# Altium footprint library TP5532-FR_DFN8.PcbLib: 2 footprints
Each footprint in its own frame and in the unit in brackets; x right, y up, seen from the top. Pads: shape width x height; smd on the part's side, far side on the other; paste and mask are expansions set on the pad; w line width, h text height; cw(c..) or ccw(c..) is an arc to the next point about the centre after c.
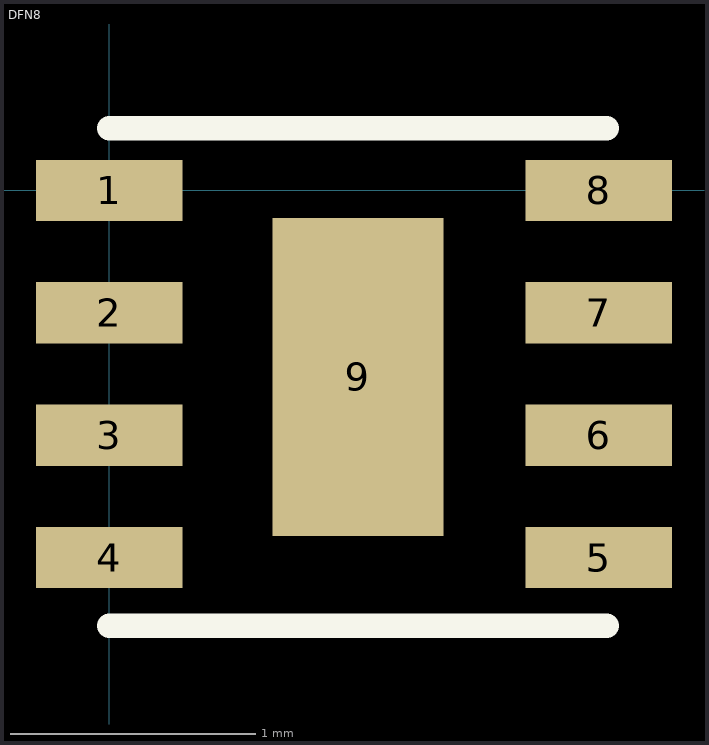
[diagram p0: the footprints below, top view; thin cyan lines are the x and y axes]

## DFN8 [mm]
pads (9):
  rect 0.6x0.25 smd: 1(0,0) 2(0,-0.5) 3(0,-1) 4(0,-1.5) 5(2,-1.5) 6(2,-1) 7(2,-0.5) 8(2,0)
  rect 0.7x1.3 smd: 9(1.016,-0.762)
Top Overlay:
  lines w0.1: 0,-1.778 2.032,-1.778 ; 0,0.254 2.032,0.254

## TP5532-FR [mm]